# Altium footprint library JST XH_2.5.PcbLib: 14 footprints
Each footprint in its own frame and in the unit in brackets; x right, y up, seen from the top. Pads: shape width x height; smd on the part's side, far side on the other; paste and mask are expansions set on the pad; w line width, h text height; cw(c..) or ccw(c..) is an arc to the next point about the centre after c.
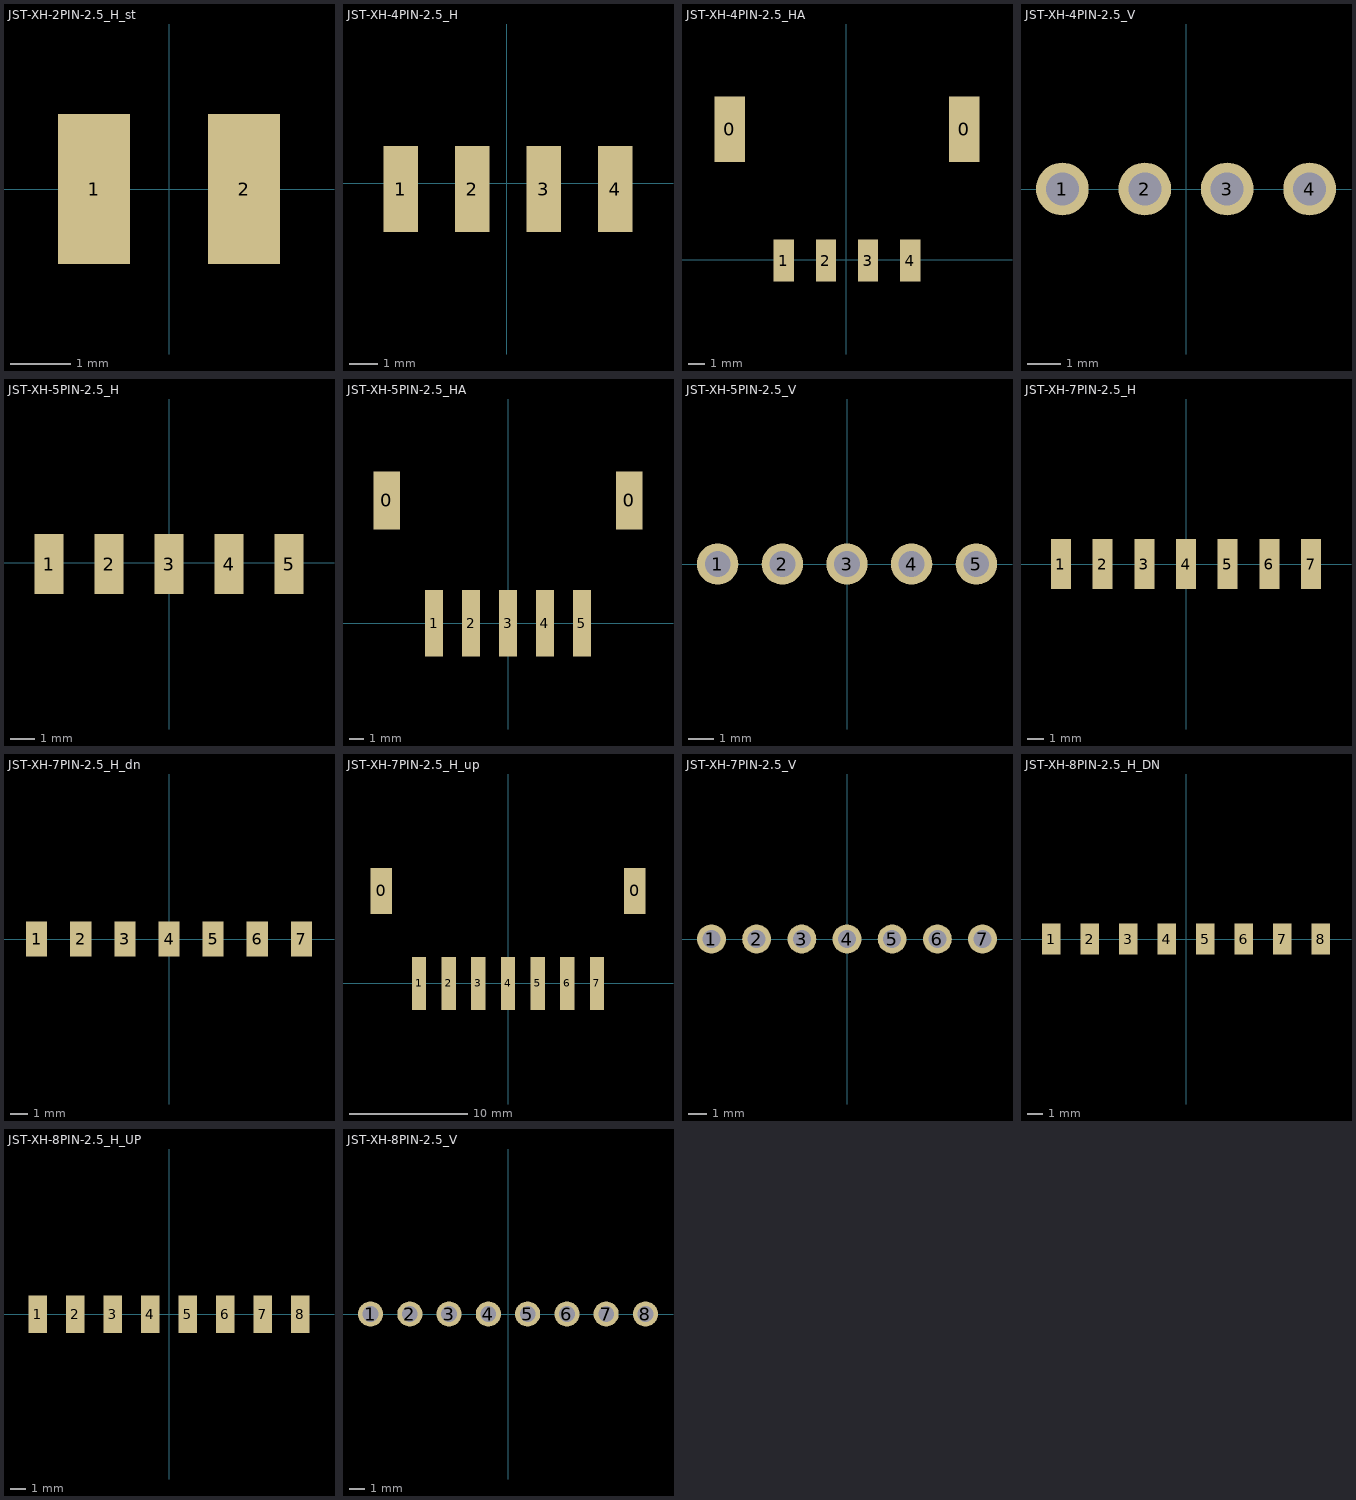
[diagram p0: the footprints below, top view; thin cyan lines are the x and y axes]

## JST-XH-2PIN-2.5_H_st [mm]
pads (2):
  rect 1.2x2.5 smd: 1(-1.25,0) 2(1.25,0)
3D body "JST-XH-2PIN_V.stp": height 2.79, standoff -3.05, extent -3.587,-9 3.587,1.211

## JST-XH-4PIN-2.5_H [mm]
pads (4):
  rect 1.2x3 smd: 1(-3.7,-0.2) 2(-1.2,-0.2) 3(1.3,-0.2) 4(3.8,-0.2)
3D body "JST-XH-4PIN_V.stp": height 2.79, standoff -3.05, extent -6.087,-1.397 6.087,8.814

## JST-XH-4PIN-2.5_HA [mm]
pads (6):
  rect 1.8x3.9 smd: 0(-6.9,7.75) 0(7,7.75)
  rect 1.2x2.5 smd: 1(-3.7,-0.05) 2(-1.2,-0.05) 3(1.3,-0.05) 4(3.8,-0.05)
3D body "S4B-XH-SM4-TB.STEP": height 6, standoff 0, extent -7.5,-0.95 7.5,9.25

## JST-XH-4PIN-2.5_V [mm]
pads (4):
  round 1.6 hole 1: 1(-3.75,0) 2(-1.25,0) 3(1.25,0) 4(3.75,0)
3D body "JST-XH-4PIN_V.stp": height 7.21, standoff -3, extent -6.087,-2.489 6.087,3.353

## JST-XH-5PIN-2.5_H [mm]
pads (5):
  rect 1.2x2.5 smd: 1(-5,-0.05) 2(-2.5,-0.05) 3(0,-0.05) 4(2.5,-0.05) 5(5,-0.05)
3D body "JST-XH-5PIN_V.stp": height 2.79, standoff -3.05, extent -7.337,-1.147 7.337,9.064

## JST-XH-5PIN-2.5_HA [mm]
pads (7):
  rect 1.8x3.9 smd: 0(-8.2,8.3) 0(8.2,8.3)
  rect 1.2x4.5 smd: 1(-5,0) 2(-2.5,0) 3(0,0) 4(2.5,0) 5(5,0)
3D body "S5B-XH-SM4-TB.STEP": height 6, standoff 0, extent -8.75,-0.9 8.75,9.7

## JST-XH-5PIN-2.5_V [mm]
pads (5):
  round 1.6 hole 1: 1(-5,0) 2(-2.5,0) 3(0,0) 4(2.5,0) 5(5,0)
3D body "JST-XH-5PIN_V.stp": height 7.21, standoff -3, extent -7.337,-2.489 7.337,3.353

## JST-XH-7PIN-2.5_H [mm]
pads (7):
  rect 1.2x3 smd: 1(-7.5,0) 2(-5,0) 3(-2.5,0) 4(0,0) 5(2.5,0) 6(5,0) 7(7.5,0)
3D body "JST-XH-7PIN_V.STEP": height 2.79, standoff -3.05, extent -9.837,-1.197 9.837,9.014

## JST-XH-7PIN-2.5_H_dn [mm]
pads (7):
  rect 1.2x2 smd: 1(-7.5,0) 2(-5,0) 3(-2.5,0) 4(0,0) 5(2.5,0) 6(5,0) 7(7.5,0)
3D body "JST-XH-7PIN_H.STEP": height 0.6, standoff -5.4, extent -11.25,-0.6 11.25,9.6

## JST-XH-7PIN-2.5_H_up [mm]
pads (9):
  rect 1.8x3.9 smd: 0(-10.7,7.8) 0(10.7,7.8)
  rect 1.2x4.5 smd: 1(-7.5,0) 2(-5,0) 3(-2.5,0) 4(0,0) 5(2.5,0) 6(5,0) 7(7.5,0)
3D body "JST-XH-8PIN_H.STEP": height 6, standoff 0, extent -11.25,-0.9 11.25,9.3

## JST-XH-7PIN-2.5_V [mm]
pads (7):
  round 1.6 hole 1: 1(-7.5,0) 2(-5,0) 3(-2.5,0) 4(0,0) 5(2.5,0) 6(5,0) 7(7.5,0)
3D body "JST-XH-7PIN_V.STEP": height 7.21, standoff -3, extent -9.837,-2.489 9.837,3.353

## JST-XH-8PIN-2.5_H_DN [mm]
pads (8):
  rect 1.2x2 smd: 1(-8.75,0) 2(-6.25,0) 3(-3.75,0) 4(-1.25,0) 5(1.25,0) 6(3.75,0) 7(6.25,0) 8(8.75,0)
3D body "JST-XH-8PIN_Hor.STEP": height 0.6, standoff -5.4, extent -12.5,-0.55 12.5,9.65

## JST-XH-8PIN-2.5_H_UP [mm]
pads (8):
  rect 1.2x2.5 smd: 1(-8.75,0) 2(-6.25,0) 3(-3.75,0) 4(-1.25,0) 5(1.25,0) 6(3.75,0) 7(6.25,0) 8(8.75,0)
3D body "JST-XH-8PIN_Hor.STEP": height 6, standoff 0, extent -12.5,-0.85 12.5,9.35

## JST-XH-8PIN-2.5_V [mm]
pads (8):
  round 1.6 hole 1: 1(-8.75,0) 2(-6.25,0) 3(-3.75,0) 4(-1.25,0) 5(1.25,0) 6(3.75,0) 7(6.25,0) 8(8.75,0)
3D body "JST-XH-8PIN_V.STEP": height 7.21, standoff -3, extent -11.087,-2.489 11.087,3.353